# EAGLE library part R-BUS-SIL-8 (library Skoba)
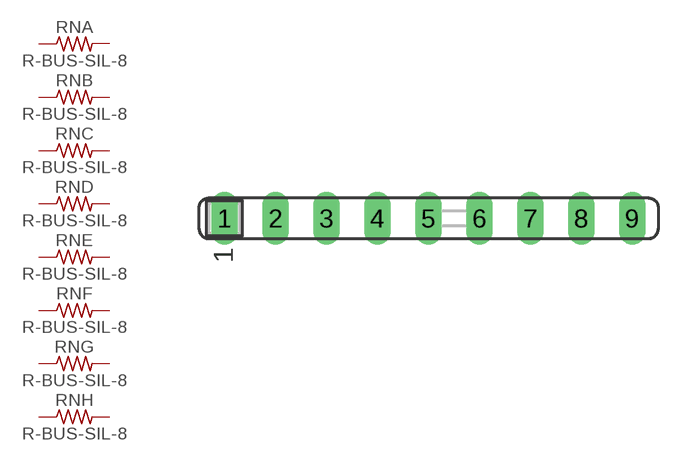
[diagram p30: symbol with the pads of SIL9; footprint SIL9]

Designator prefix RN; gates A=R-US B=R-US-1 C=R-US-1 D=R-US-1 E=R-US-1 F=R-US-1 G=R-US-1 H=R-US-1

## R-BUS-SIL-8SIL  [SIL9]
1  A:2  pas
2  A:1  pas
3  B:1  pas
4  C:1  pas
5  D:1  pas
6  E:1  pas
7  F:1  pas
8  G:1  pas
9  H:1  pas

## Footprint SIL9 (pad centres in mm)
drill 0.813 long: 1 -9.93,0; 2 -7.39,0; 3 -4.85,0; 4 -2.31,0; 5 0.23,0; 6 2.77,0; 7 5.31,0; 8 7.85,0; 9 10.39,0